# Altium footprint library PLS.PcbLib: 15 footprints
Each footprint in its own frame and in the unit in brackets; x right, y up, seen from the top. Pads: shape width x height; smd on the part's side, far side on the other; paste and mask are expansions set on the pad; w line width, h text height; cw(c..) or ccw(c..) is an arc to the next point about the centre after c.
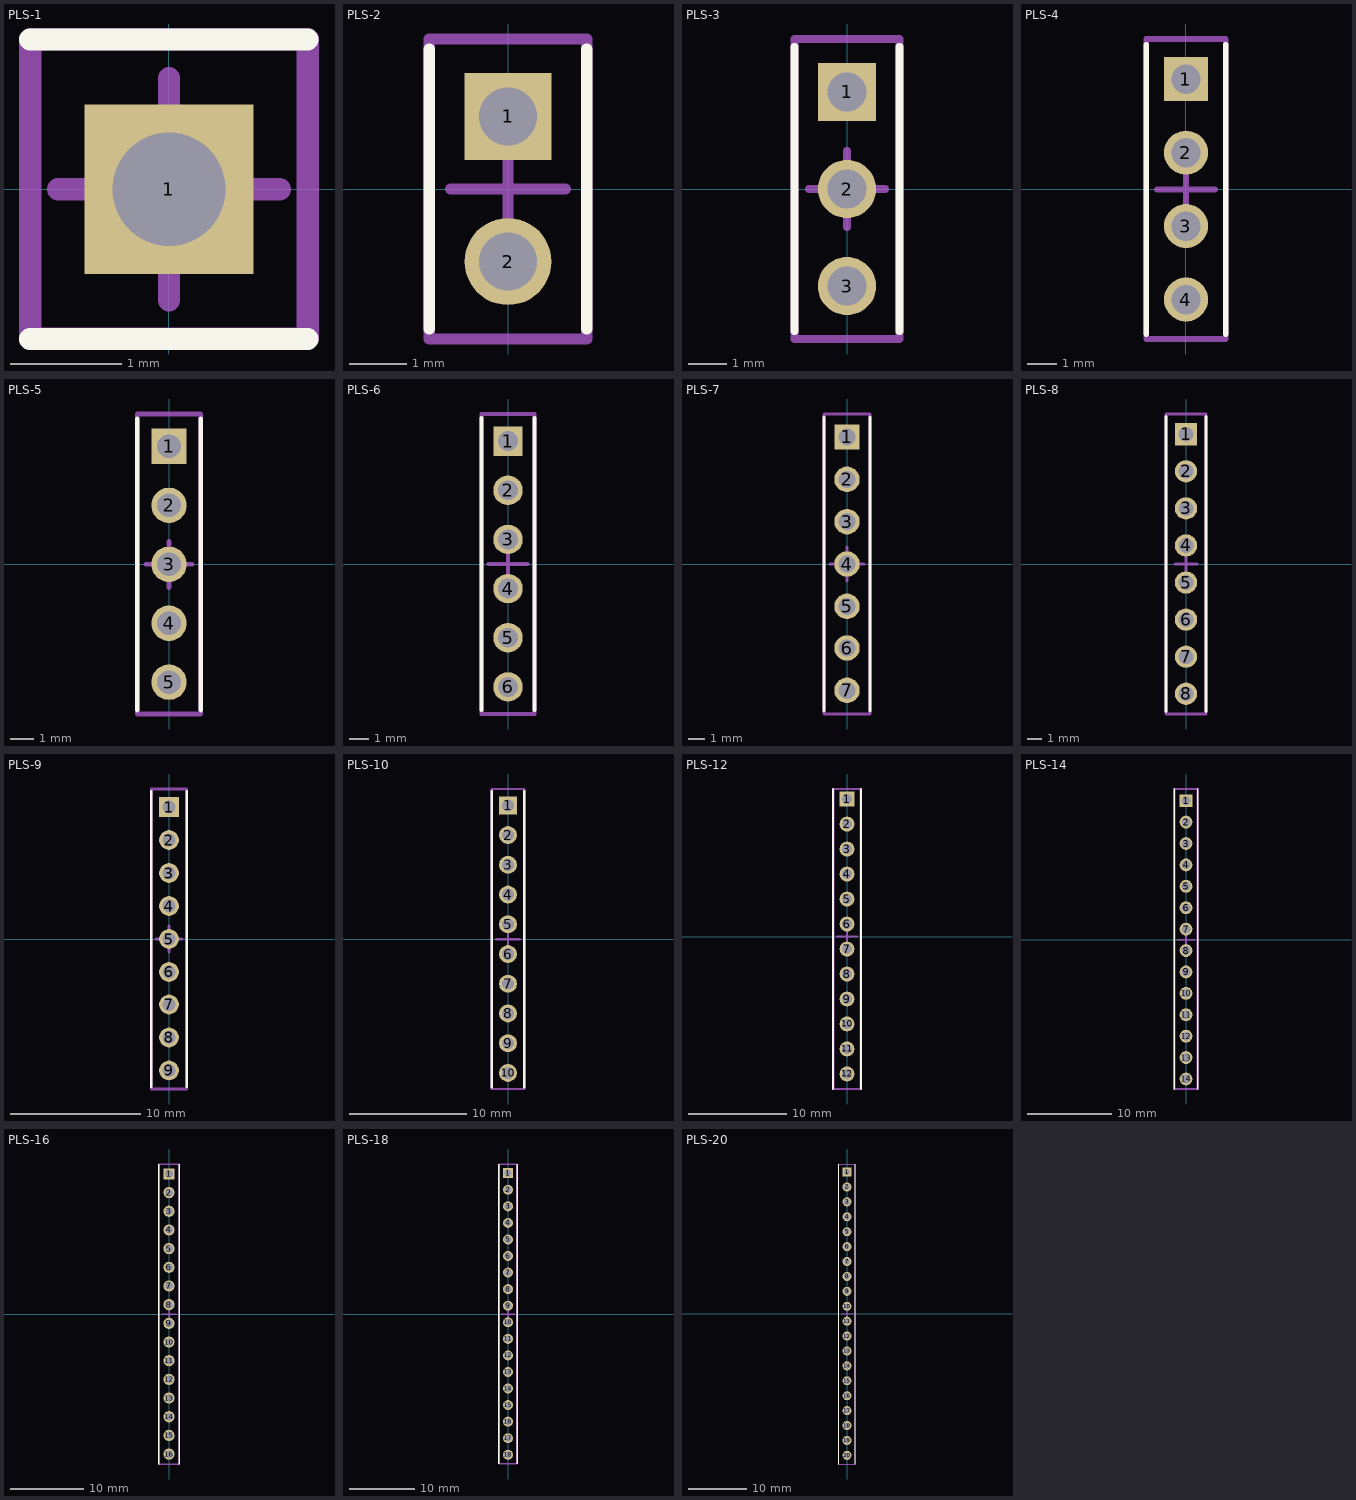
[diagram p0: the footprints below, top view; thin cyan lines are the x and y axes]

## PLS-1 [mil]
pads (1):
  rect 60x60 hole 40.16: 1(0,0)
Top Overlay:
  lines w7.87: -49.21,-53.15 49.21,-53.15 ; -49.21,53.15 49.21,53.15
Assembly:
  lines w7.87: -49.14,-52.99 49.29,-52.99 49.29,53.31 -49.14,53.31 -49.14,-52.99
Mechanical 15:
  lines w7.87: -39.37,0 39.37,0 ; 0,-39.37 0,39.37 ; -49.21,-53.15 49.21,-53.15 49.21,53.15 -49.21,53.15 -49.21,-53.15
3D body "PLS-1.step": height 336.22, standoff -118.11, extent -49.21,-49.21 49.22,49.22

## PLS-2 [mil]
pads (2):
  rect 60x60 hole 40.16: 1(0,50)
  round 60 hole 40.16: 2(0,-50)
Top Overlay:
  lines w7.87: -54.13,-96.46 -54.13,96.46 ; 54.13,-96.46 54.13,96.46
Assembly:
  lines w7.87: 54.13,103.35 54.13,-103.35 -54.13,-103.35 -54.13,103.35 54.13,103.35 ; 54.13,103.35 54.13,103.35
Mechanical 15:
  lines w7.87: -39.37,0 39.37,0 ; 0,-39.37 0,39.37 ; 54.13,103.35 54.13,-103.35 -54.13,-103.35 -54.13,103.35 54.13,103.35 ; 54.13,103.35 54.13,103.35
3D body "PLS-2.step": height 336.22, standoff -118.11, extent -50,-100 50,100

## PLS-3 [mil]
pads (3):
  rect 60x60 hole 40.16: 1(0,100)
  round 60 hole 40.16: 2(0,0) 3(0,-100)
Top Overlay:
  lines w7.87: -54.13,-146.65 -54.13,146.65 ; 54.13,-146.65 54.13,146.65
Assembly:
  lines w7.87: -54.13,-154.53 54.13,-154.53 54.13,154.53 -54.13,154.53 -54.13,-154.53
Mechanical 15:
  lines w7.87: -39.37,0 39.37,0 ; 0,-39.37 0,39.37 ; -54.13,-154.53 54.13,-154.53 54.13,154.53 -54.13,154.53 -54.13,-154.53
3D body "PLS-3.step": height 336.22, standoff -118.11, extent -50,-150 50,150

## PLS-4 [mil]
pads (4):
  rect 60x60 hole 40.16: 1(0,150)
  round 60 hole 40.16: 2(0,50) 3(0,-50) 4(0,-150)
Top Overlay:
  lines w7.87: -54.13,-196.85 -54.13,196.85 ; 54.13,-196.85 54.13,196.85
Assembly:
  lines w7.87: -54.13,-203.74 54.13,-203.74 54.13,204.72 -54.13,204.72 -54.13,-203.74
Mechanical 15:
  lines w7.87: -39.37,0 39.37,0 ; 0,-39.37 0,39.37 ; -54.13,-203.74 54.13,-203.74 54.13,204.72 -54.13,204.72 -54.13,-203.74
3D body "PLS-4.step": height 336.22, standoff -118.11, extent -50,-200 50,200

## PLS-5 [mil]
pads (5):
  rect 60x60 hole 40.16: 1(0,200)
  round 60 hole 40.16: 2(0,100) 3(0,0) 4(0,-100) 5(0,-200)
Top Overlay:
  lines w7.87: -54.13,-247.05 -54.13,247.05 ; 54.13,-247.05 54.13,247.05
Assembly:
  lines w7.87: -54.13,-253.94 -54.13,254.92 54.13,254.92 54.13,-253.94 -54.13,-253.94
Mechanical 15:
  lines w7.87: -39.37,0 39.37,0 ; 0,-39.37 0,39.37 ; -54.13,-253.94 -54.13,254.92 54.13,254.92 54.13,-253.94 -54.13,-253.94
3D body "PLS-5.step": height 336.22, standoff -118.11, extent -50,-250 50,250

## PLS-6 [mil]
pads (6):
  rect 60x60 hole 40.16: 1(0,250)
  round 60 hole 40.16: 2(0,150) 3(0,50) 4(0,-50) 5(0,-150) 6(0,-250)
Top Overlay:
  lines w7.87: -54.13,-297.24 -54.13,297.24 ; 54.13,-297.24 54.13,297.24
Assembly:
  lines w7.87: -54.13,-305.12 54.13,-305.12 54.13,305.12 -54.13,305.12 -54.13,-305.12
Mechanical 15:
  lines w7.87: -39.37,0 39.37,0 ; 0,-39.37 0,39.37 ; -54.13,-305.12 -54.13,305.12 54.13,305.12 54.13,-305.12 -54.13,-305.12
3D body "PLS-6.step": height 336.22, standoff -118.11, extent -50,-300 50,300

## PLS-7 [mil]
pads (7):
  rect 60x60 hole 40.16: 1(0,300)
  round 60 hole 40.16: 2(0,200) 3(0,100) 4(0,0) 5(0,-100) 6(0,-198.43) 7(0,-298.43)
Top Overlay:
  lines w7.87: -54.13,-347.44 -54.13,347.44 ; 54.13,-347.44 54.13,347.44
Assembly:
  lines w7.87: -54.13,-354.33 54.13,-354.33 54.13,354.33 -54.13,354.33 -54.13,-354.33
Mechanical 15:
  lines w7.87: -39.37,0 39.37,0 ; 0,-39.37 0,39.37 ; -54.13,-354.33 54.13,-354.33 54.13,354.33 -54.13,354.33 -54.13,-354.33
3D body "PLS-7.step": height 336.22, standoff -118.11, extent -50,-350 50,350

## PLS-8 [mil]
pads (8):
  rect 60x60 hole 40.16: 1(0,350)
  round 60 hole 40.16: 2(0,250) 3(0,150) 4(0,50) 5(0,-50) 6(0,-150) 7(0,-250) 8(0,-350)
Top Overlay:
  lines w7.87: -54.13,-397.64 -54.13,397.64 ; 54.13,-397.64 54.13,397.64
Assembly:
  lines w7.87: -54.13,-404.53 54.13,-404.53 54.13,404.53 -54.13,404.53 -54.13,-404.53
Mechanical 15:
  lines w7.87: -29.53,0 29.53,0 ; 0,-29.53 0,29.53 ; -54.13,-404.53 54.13,-404.53 54.13,404.53 -54.13,404.53 -54.13,-404.53
3D body "PLS-8.step": height 336.22, standoff -118.11, extent -50,-400 50,400

## PLS-9 [mil]
pads (9):
  rect 60x60 hole 40.16: 1(0,400)
  round 60 hole 40.16: 2(0,300) 3(0,200) 4(0,100) 5(0,0) 6(0,-100) 7(0,-198.43) 8(0,-298.43) 9(0,-398.43)
Top Overlay:
  lines w7.87: -54.13,-447.83 -54.13,447.83 ; 54.13,-447.83 54.13,447.83
Assembly:
  lines w7.87: -54.13,-454.72 -54.13,454.72 54.13,454.72 54.13,-454.72 -54.13,-454.72
Mechanical 15:
  lines w7.87: -39.37,0 39.37,0 ; 0,-39.37 0,39.37 ; -54.13,-454.72 54.13,-454.72 54.13,454.72 -54.13,454.72 -54.13,-454.72
3D body "PLS-9.step": height 336.22, standoff -118.11, extent -50,-450 50,450

## PLS-10 [mil]
pads (10):
  rect 60x60 hole 40.16: 1(0,450)
  round 60 hole 40.16: 2(0,350) 3(0,250) 4(0,150) 5(0,50) 6(0,-50) 7(0,-150) 8(0,-250) 9(0,-350) 10(0,-450)
Top Overlay:
  lines w7.87: -54.13,-498.03 -54.13,498.03 ; 54.13,-498.03 54.13,498.03
Assembly:
  lines w7.87: -54.13,-503.94 -54.13,504.92 54.13,504.92 54.13,-503.94 -54.13,-503.94
Mechanical 15:
  lines w7.87: -39.37,0 39.37,0 ; 0,-39.37 0,39.37 ; -54.13,-503.94 54.13,-503.94 54.13,504.92 -54.13,504.92 -54.13,-503.94
3D body "PLS-10.step": height 336.22, standoff -118.11, extent -50,-500 50,500

## PLS-12 [mil]
pads (12):
  rect 60x60 hole 40.16: 1(0,550)
  round 60 hole 40.16: 2(0,450) 3(0,350) 4(0,250) 5(0,150) 6(0,50) 7(0,-50) 8(0,-150) 9(0,-250) 10(0,-350) 11(0,-450) 12(0,-550)
Top Overlay:
  lines w7.87: -55.12,-610.24 -55.12,590.55 ; 55.12,-610.24 55.12,590.55
Assembly:
  lines w7.87: -54.13,-610.24 -54.13,590.55 54.13,590.55 54.13,-610.24 -54.13,-610.24
Mechanical 15:
  lines w7.87: -39.37,0 39.37,0 ; 0,-39.37 0,39.37 ; -54.13,-610.24 54.13,-610.24 54.13,590.55 -54.13,590.55 -54.13,-610.24

## PLS-14 [mil]
pads (14):
  rect 60x60 hole 40.16: 1(0,650)
  round 60 hole 40.16: 2(0,550) 3(0,450) 4(0,350) 5(0,250) 6(0,150) 7(0,50) 8(0,-50) 9(0,-150) 10(0,-250) 11(0,-350) 12(0,-450) 13(0,-550) 14(0,-650)
Top Overlay:
  lines w7.87: -55.12,-696.85 -55.12,704.72 ; 55.12,-696.85 55.12,704.72
Assembly:
  lines w7.87: -54.13,-696.85 54.13,-696.85 54.13,704.72 -54.13,704.72 -54.13,-696.85
Mechanical 15:
  lines w7.87: -39.37,0 39.37,0 ; 0,-39.37 0,39.37 ; -54.13,-696.85 -54.13,704.72 54.13,704.72 54.13,-696.85 -54.13,-696.85

## PLS-16 [mil]
pads (16):
  rect 60x60 hole 40.16: 1(0,750)
  round 60 hole 40.16: 2(0,650) 3(0,550) 4(0,450) 5(0,350) 6(0,250) 7(0,150) 8(0,50) 9(0,-50) 10(0,-150) 11(0,-250) 12(0,-350) 13(0,-450) 14(0,-550) 15(0,-650) 16(0,-750)
Top Overlay:
  lines w7.87: -55.12,-803.15 -55.12,803.15 ; 55.12,-803.15 55.12,803.15
Assembly:
  lines w7.87: -54.13,-803.15 54.13,-803.15 54.13,803.15 -54.13,803.15 -54.13,-803.15
Mechanical 15:
  lines w7.87: -39.37,0 39.37,0 ; 0,-39.37 0,39.37 ; -54.13,-803.15 -54.13,803.15 54.13,803.15 54.13,-803.15 -54.13,-803.15

## PLS-18 [mil]
pads (18):
  rect 60x60 hole 40.16: 1(0,850)
  round 60 hole 40.16: 2(0,750) 3(0,650) 4(0,550) 5(0,450) 6(0,350) 7(0,250) 8(0,150) 9(0,50) 10(0,-50) 11(0,-150) 12(0,-250) 13(0,-350) 14(0,-450) 15(0,-550) 16(0,-650) 17(0,-750) 18(0,-850)
Top Overlay:
  lines w7.87: -55.12,-905.51 -55.12,905.51 ; 55.12,-905.51 55.12,905.51
Assembly:
  lines w7.87: -54.13,-905.51 -54.13,905.51 54.13,905.51 54.13,-905.51 -54.13,-905.51
Mechanical 15:
  lines w7.87: -39.37,0 39.37,0 ; 0,-39.37 0,39.37 ; -54.13,-905.51 54.13,-905.51 54.13,905.51 -54.13,905.51 -54.13,-905.51

## PLS-20 [mil]
pads (20):
  rect 60x60 hole 40.16: 1(0,950)
  round 60 hole 40.16: 2(0,850) 3(0,750) 4(0,650) 5(0,550) 6(0,450) 7(0,350) 8(0,250) 9(0,150) 10(0,50) 11(0,-50) 12(0,-150) 13(0,-250) 14(0,-350) 15(0,-450) 16(0,-550) 17(0,-650) 18(0,-750) 19(0,-850) 20(0,-950)
Top Overlay:
  lines w7.87: -55.12,-1007.87 -55.12,1003.94 ; 55.12,-1007.87 55.12,1003.94
Assembly:
  lines w7.87: -54.13,-1007.87 -54.13,1003.94 54.13,1003.94 54.13,-1007.87 -54.13,-1007.87
Mechanical 15:
  lines w7.87: -39.37,0 39.37,0 ; 0,-39.37 0,39.37 ; -54.13,-1007.87 54.13,-1007.87 54.13,1003.94 -54.13,1003.94 -54.13,-1007.87